# Altium footprint library PLMZM23601SILR.PcbLib: 2 footprints
Each footprint in its own frame and in the unit in brackets; x right, y up, seen from the top. Pads: shape width x height; smd on the part's side, far side on the other; paste and mask are expansions set on the pad; w line width, h text height; cw(c..) or ccw(c..) is an arc to the next point about the centre after c.
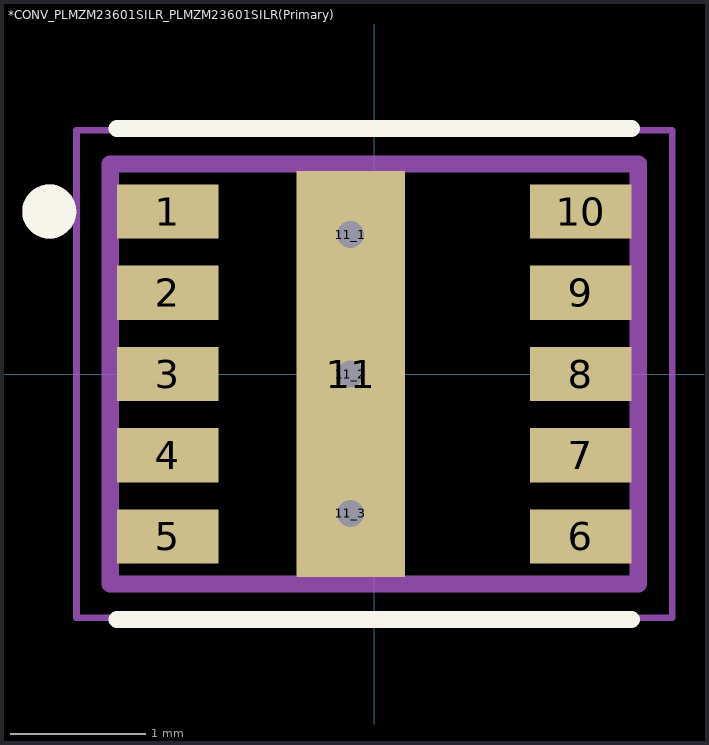
[diagram p0: the footprints below, top view; thin cyan lines are the x and y axes]

## *CONV_PLMZM23601SILR_PLMZM23601SILR(Primary) [mm]
pads (14):
  rect 0.75x0.4 smd: 1(-1.525,1.2) 2(-1.525,0.6) 3(-1.525,0) 4(-1.525,-0.6) 5(-1.525,-1.2) 6(1.525,-1.2) 7(1.525,-0.6) 8(1.525,0) 9(1.525,0.6) 10(1.525,1.2)
  rect 0.8x3 smd: 11(-0.175,0)
  round 0.3 hole 0.2: 11_1(-0.175,1.03) 11_2(-0.175,0) 11_3(-0.175,-1.03)
Top Overlay:
  circle w0.2: c-2.4,1.2 r0.1
  lines w0.127: -1.9,-1.813 1.9,-1.813 ; -1.9,1.813 1.9,1.813
Top Paste:
  region: 1.2,-1.05 1.85,-1.05 1.85,-1.35 1.2,-1.35
  region: 1.2,-0.45 1.85,-0.45 1.85,-0.75 1.2,-0.75
  region: 1.2,0.15 1.85,0.15 1.85,-0.15 1.2,-0.15
  region: 1.2,0.75 1.85,0.75 1.85,0.45 1.2,0.45
  region: 1.2,1.35 1.85,1.35 1.85,1.05 1.2,1.05
  region: -1.85,-1.05 -1.2,-1.05 -1.2,-1.35 -1.85,-1.35
  region: -1.85,-0.45 -1.2,-0.45 -1.2,-0.75 -1.85,-0.75
  region: -1.85,0.15 -1.2,0.15 -1.2,-0.15 -1.85,-0.15
  region: -1.85,0.75 -1.2,0.75 -1.2,0.45 -1.85,0.45
  region: -1.85,1.35 -1.2,1.35 -1.2,1.05 -1.85,1.05
  region: -0.525,-0.613 0.175,-0.613 0.175,-1.446 -0.525,-1.446
  region: -0.525,0.416 0.175,0.416 0.175,-0.416 -0.525,-0.416
  region: -0.525,1.446 0.175,1.446 0.175,0.613 -0.525,0.613
Top Solder:
  region: 1.2,-1.05 1.85,-1.05 1.85,-1.35 1.2,-1.35
  region: 1.2,-0.45 1.85,-0.45 1.85,-0.75 1.2,-0.75
  region: 1.2,1.35 1.85,1.35 1.85,1.05 1.2,1.05
  region: 1.2,0.75 1.85,0.75 1.85,0.45 1.2,0.45
  region: -1.85,-1.05 -1.2,-1.05 -1.2,-1.35 -1.85,-1.35
  region: -1.85,-0.45 -1.2,-0.45 -1.2,-0.75 -1.85,-0.75
  region: -1.85,1.35 -1.2,1.35 -1.2,1.05 -1.85,1.05
  region: -1.85,0.75 -1.2,0.75 -1.2,0.45 -1.85,0.45
  region: 1.2,0.15 1.85,0.15 1.85,-0.15 1.2,-0.15
  region: -1.85,0.15 -1.2,0.15 -1.2,-0.15 -1.85,-0.15
  region: -0.525,1.45 0.175,1.45 0.175,-1.45 -0.525,-1.45
Mechanical 4:
  circle w0.2: c-2.4,1.2 r0.1
  circle w0.2: c-2.4,1.2 r0.1
  lines w0.127: -1.95,-1.55 1.95,-1.55 ; -1.95,-1.55 -1.95,1.55 ; -1.95,-1.55 1.95,-1.55 ; -1.95,-1.55 -1.95,1.55 ; -1.95,1.55 1.95,1.55 ; -1.95,1.55 1.95,1.55 ; 1.95,-1.55 1.95,1.55 ; 1.95,-1.55 1.95,1.55
Mechanical 16:
  lines w0.05: -2.2,-1.8 2.2,-1.8 2.2,1.8 -2.2,1.8 -2.2,-1.8

## PCBComponent_1 [mm]